# EAGLE library part LM4865 (library 31813 Neutron Readout PCB)
Audio Amp with Volume control
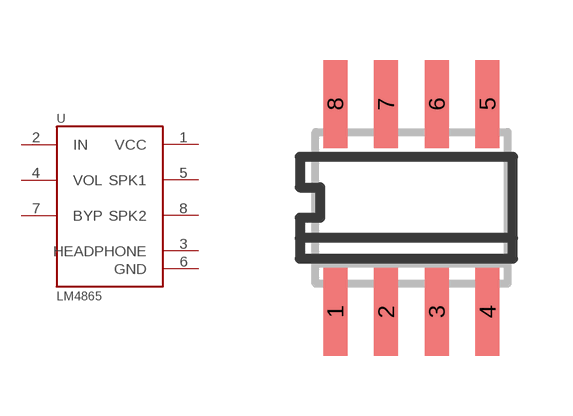
[diagram p10: symbol with the pads of SOIC-08-150; footprint SOIC-08-150]

Designator prefix U

## LM4865  [SOIC-08-150]
1  VCC
2  IN
3  HEADPHONE
4  VOL
5  SPK1
6  GND
7  BYP
8  SPK2

## Footprint SOIC-08-150 (pad centres in mm)
smd 0.6 x 2.2: 1 -1.905,-2.6; 2 -0.635,-2.6; 3 0.635,-2.6; 4 1.905,-2.6; 5 1.905,2.6; 6 0.635,2.6; 7 -0.635,2.6; 8 -1.905,2.6